# Altium schematic symbol library RC0402JR-0756KL.SchLib: 1 symbol
Pins are listed as number, name and electrical type; pins without a type are passive.

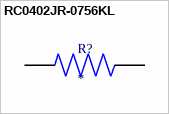
[diagram p0: symbol RC0402JR-0756KL]

## RC0402JR-0756KL
designator R?
56 kOhms Â±5% 0.063W, 1/16W Chip Resistor 0402 (1005 Metric) Thick Film; MF: Yageo; MP: RC0402JR-0756KL; Purchase-URL: https://pricing.snapeda.com/search/part/RC0402JR-0756KL/?ref=eda; Package: 1005 Panasonic Electronic Components; Check_prices: https://www.snapeda.com/parts/RC0402JR-0756KL/Yageo/view-part/614951/?ref=eda; Digi-Key_Part_Number: 311-56KJRCT-ND; Value: *; SnapEDA_Link: https://www.snapeda.com/parts/RC0402JR-0756KL/Yageo/view-part/614951/?ref=snap
footprint RESC1005X40N
pins: 1, 2